# Altium integrated library Altium Database Library V2.IntLib: 629 symbols (part 26 of 28)

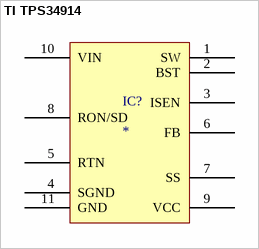
[diagram p569: symbol TI TPS34914]

## TI TPS34914
designator IC?
pins: 1 SW, 2 BST, 3 ISEN, 4 SGND, 5 RTN, 6 FB, 7 SS, 8 RON/SD, 9 VCC, 10 VIN, 11 GND


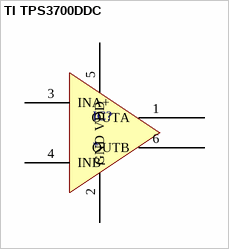
[diagram p570: symbol TI TPS3700DDC]

## TI TPS3700DDC
designator IC?
pins: 1 OUTA, 2 GND, 3 INA+, 4 INB-, 5 VDD, 6 OUTB


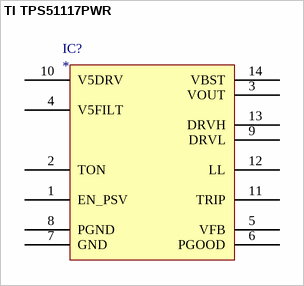
[diagram p571: symbol TI TPS51117PWR]

## TI TPS51117PWR
designator IC?
pins: 1 EN_PSV, 2 TON, 3 VOUT, 4 V5FILT (power), 5 VFB, 6 PGOOD, 7 GND (power), 8 PGND (power), 9 DRVL, 10 V5DRV (power), 11 TRIP, 12 LL, 13 DRVH, 14 VBST


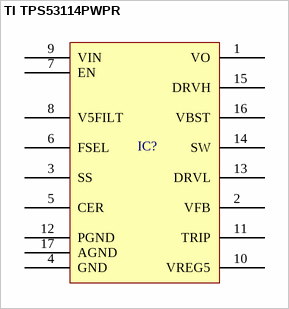
[diagram p572: symbol TI TPS53114PWPR]

## TI TPS53114PWPR
designator IC?
pins: 1 VO, 2 VFB, 3 SS, 4 GND, 5 CER, 6 FSEL, 7 EN, 8 V5FILT, 9 VIN, 10 VREG5, 11 TRIP, 12 PGND, 13 DRVL, 14 SW, 15 DRVH, 16 VBST, 17 AGND


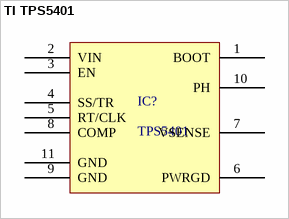
[diagram p573: symbol TI TPS5401]

## TI TPS5401
designator IC?, comment TPS5401
Buck Step Down Regulator with 3.5 to 42 V Input and 0.8 to 39 V Output
pins: 1 BOOT "A bootstrap capacitor is required between BOOT and PH. If the voltage on this capacitor is below the minimum required by the output device, the output is forced to switch off until the capacitor is refreshed.", 2 VIN (power) "Input supply voltage, 3.5 V to 42 V.", 3 EN "Enable pin, internal pullup current source. Pull below 1.2 V to disable. Float to enable. Adjust the input undervoltage lockout with two resistors.", 4 SS/TR "Slow-start and tracking. An external capacitor connected to this pin sets the output rise time. Because the voltage on this pin overrides the internal reference, it can be used for tracking and sequencing.", 5 RT/CLK "Resistor timing and external clock. An internal amplifier holds this pin at a fixed voltage when using an external resistor to ground to set the switching frequency. If the pin is pulled above the PLL upper threshold, a mode (See Datasheet)", 6 PWRGD (oc) "An open-drain output; asserts low if output voltage is low due to thermal shutdown, dropout, overvoltage or EN shutdown.", 7 VSENSE "Inverting node of the transconductance (gm) error amplifier.", 8 COMP "Error amplifier output, and input to the output switch current comparator. Connect frequency compensation components to this pin.", 9 GND (power) "Ground", 10 PH (power) "The source of the internal high-side power MOSFET", 11 GND (power) "GND pin must be electrically connected to the thermal pad on the printed circuit board for proper operation."


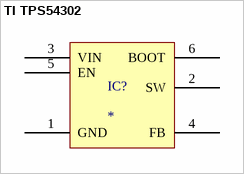
[diagram p574: symbol TI TPS54302]

## TI TPS54302
designator IC?
pins: 1 GND, 2 SW, 3 VIN, 4 FB, 5 EN, 6 BOOT


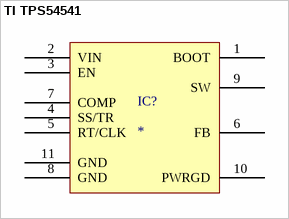
[diagram p575: symbol TI TPS54541]

## TI TPS54541
designator IC?
Buck, Split Rail Switching Regulator IC Positive Adjustable 0.8V 1 Output 5A 10-WDFN Exposed Pad
pins: 1 BOOT "A bootstrap capacitor is required between BOOT and PH. If the voltage on this capacitor is below the minimum required by the output device, the output is forced to switch off until the capacitor is refreshed.", 2 VIN (power) "Input supply voltage, 3.5 V to 42 V.", 3 EN "Enable pin, internal pullup current source. Pull below 1.2 V to disable. Float to enable. Adjust the input undervoltage lockout with two resistors.", 4 SS/TR "Slow-start and tracking. An external capacitor connected to this pin sets the output rise time. Because the voltage on this pin overrides the internal reference, it can be used for tracking and sequencing.", 5 RT/CLK "Resistor timing and external clock. An internal amplifier holds this pin at a fixed voltage when using an external resistor to ground to set the switching frequency. If the pin is pulled above the PLL upper threshold, a mode (See Datasheet)", 6 FB "Inverting node of the transconductance (gm) error amplifier.", 7 COMP "Error amplifier output, and input to the output switch current comparator. Connect frequency compensation components to this pin.", 8 GND (power) "Ground", 9 SW (power) "The source of the internal high-side power MOSFET", 10 PWRGD (oc) "An open-drain output; asserts low if output voltage is low due to thermal shutdown, dropout, overvoltage or EN shutdown.", 11 GND (power) "GND pin must be electrically connected to the thermal pad on the printed circuit board for proper operation."


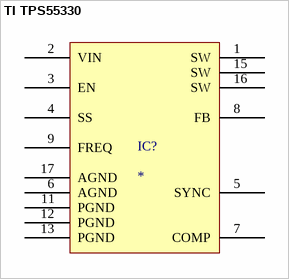
[diagram p576: symbol TI TPS55330]

## TI TPS55330
designator IC?
pins: 1 SW, 2 VIN, 3 EN, 4 SS, 5 SYNC, 6 AGND, 7 COMP, 8 FB, 9 FREQ, 11 PGND, 12 PGND, 13 PGND, 15 SW, 16 SW, 17 AGND


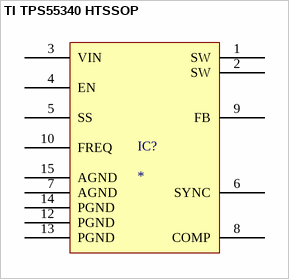
[diagram p577: symbol TI TPS55340 HTSSOP]

## TI TPS55340 HTSSOP
designator IC?
pins: 1 SW, 2 SW, 3 VIN, 4 EN, 5 SS, 6 SYNC, 7 AGND, 8 COMP, 9 FB, 10 FREQ, 12 PGND, 13 PGND, 14 PGND, 15 AGND


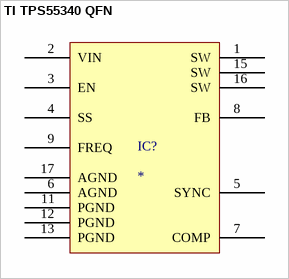
[diagram p578: symbol TI TPS55340 QFN]

## TI TPS55340 QFN
designator IC?
pins: 1 SW, 2 VIN, 3 EN, 4 SS, 5 SYNC, 6 AGND, 7 COMP, 8 FB, 9 FREQ, 11 PGND, 12 PGND, 13 PGND, 15 SW, 16 SW, 17 AGND


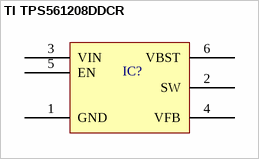
[diagram p579: symbol TI TPS561208DDCR]

## TI TPS561208DDCR
designator IC?
pins: 1 GND, 2 SW, 3 VIN, 4 VFB, 5 EN, 6 VBST


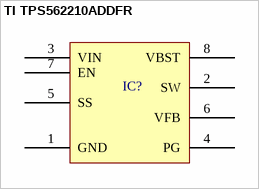
[diagram p580: symbol TI TPS562210ADDFR]

## TI TPS562210ADDFR
designator IC?
pins: 1 GND, 2 SW, 3 VIN, 4 PG, 5 SS, 6 VFB, 7 EN, 8 VBST


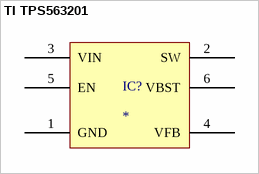
[diagram p581: symbol TI TPS563201]

## TI TPS563201
designator IC?
pins: 1 GND, 2 SW, 3 VIN, 4 VFB, 5 EN, 6 VBST


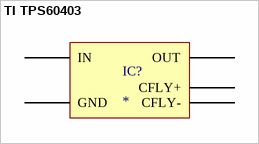
[diagram p582: symbol TI TPS60403]

## TI TPS60403
designator IC?
pins: 1 OUT, 2 IN, 3 CFLY-, 4 GND, 5 CFLY+


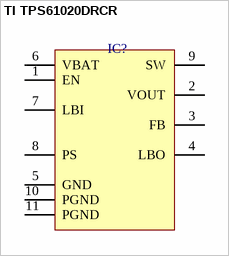
[diagram p583: symbol TI TPS61020DRCR]

## TI TPS61020DRCR
designator IC?
pins: 1 EN, 2 VOUT, 3 FB, 4 LBO, 5 GND, 6 VBAT, 7 LBI, 8 PS, 9 SW, 10 PGND, 11 PGND


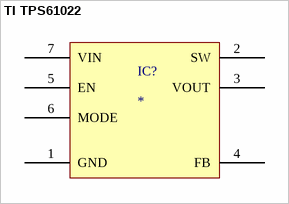
[diagram p584: symbol TI TPS61022]

## TI TPS61022
designator IC?
pins: 1 GND, 2 SW, 3 VOUT, 4 FB, 5 EN, 6 MODE, 7 VIN


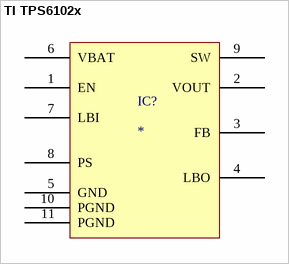
[diagram p585: symbol TI TPS6102x]

## TI TPS6102x
designator IC?
pins: 1 EN, 2 VOUT, 3 FB, 4 LBO, 5 GND, 6 VBAT, 7 LBI, 8 PS, 9 SW, 10 PGND, 11 PGND


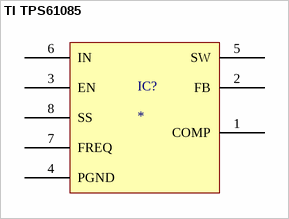
[diagram p586: symbol TI TPS61085]

## TI TPS61085
designator IC?
pins: 1 COMP, 2 FB, 3 EN, 4 PGND, 5 SW, 6 IN, 7 FREQ, 8 SS


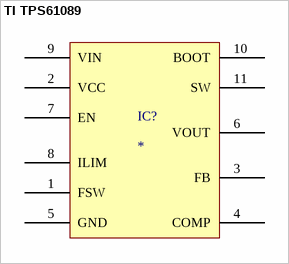
[diagram p587: symbol TI TPS61089]

## TI TPS61089
designator IC?
pins: 1 FSW, 2 VCC, 3 FB, 4 COMP, 5 GND, 6 VOUT, 7 EN, 8 ILIM, 9 VIN, 10 BOOT, 11 SW


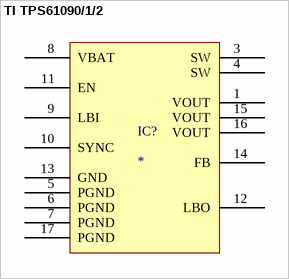
[diagram p588: symbol TI TPS61090/1/2]

## TI TPS61090/1/2
designator IC?
pins: 1 VOUT, 3 SW, 4 SW, 5 PGND, 6 PGND, 7 PGND, 8 VBAT, 9 LBI, 10 SYNC, 11 EN, 12 LBO, 13 GND, 14 FB, 15 VOUT, 16 VOUT, 17 PGND


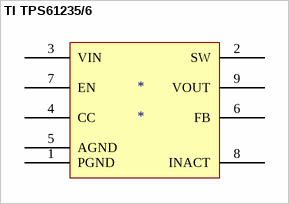
[diagram p589: symbol TI TPS61235/6]

## TI TPS61235/6
designator *
pins: 1 PGND, 2 SW, 3 VIN, 4 CC, 5 AGND, 6 FB, 7 EN, 8 INACT, 9 VOUT


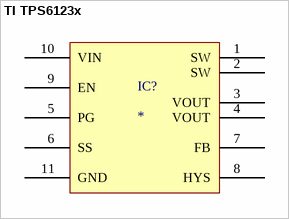
[diagram p590: symbol TI TPS6123x]

## TI TPS6123x
designator IC?
pins: 1 SW, 2 SW, 3 VOUT, 4 VOUT, 5 PG, 6 SS, 7 FB, 8 HYS, 9 EN, 10 VIN, 11 GND


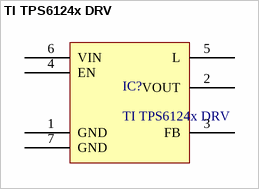
[diagram p591: symbol TI TPS6124x DRV]

## TI TPS6124x DRV
designator IC?
Integrated Circuit
pins: 1 GND, 2 VOUT, 3 FB, 4 EN, 5 L, 6 VIN, 7 GND
